# EAGLE library part TRS3232E (library laforge)
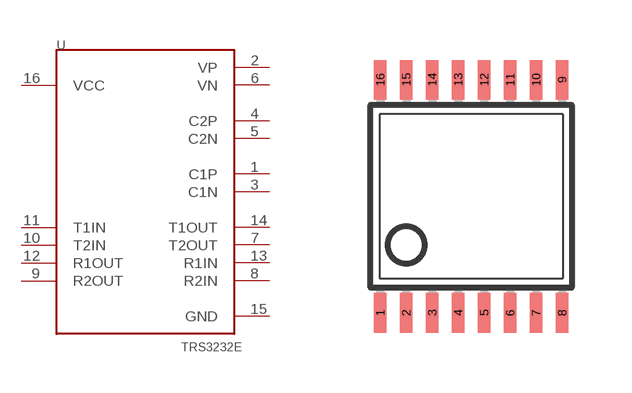
[diagram p41: symbol with the pads of TSSOP16; footprint TSSOP16]

Designator prefix U

## TRS3232ECPW  [TSSOP16]
1  C1P  pas
2  VP  pas
3  C1N  pas
4  C2P  pas
5  C2N  pas
6  VN  pas
7  T2OUT  out
8  R2IN  in
9  R2OUT  out
10  T2IN  in
11  T1IN  in
12  R1OUT  out
13  R1IN  in
14  T1OUT  out
15  GND  pas
16  VCC  pwr

## Footprint TSSOP16 (pad centres in mm)
smd 0.305 x 0.991: 1 -2.275,-2.918; 2 -1.625,-2.918; 3 -0.975,-2.918; 4 -0.325,-2.918; 5 0.325,-2.918; 6 0.975,-2.918; 7 1.625,-2.918; 8 2.275,-2.918; 9 2.275,2.918; 10 1.625,2.918; 11 0.975,2.918; 12 0.325,2.918; 13 -0.325,2.918; 14 -0.975,2.918; 15 -1.625,2.918; 16 -2.275,2.918